# EAGLE library part TL2575HV (library wpt)
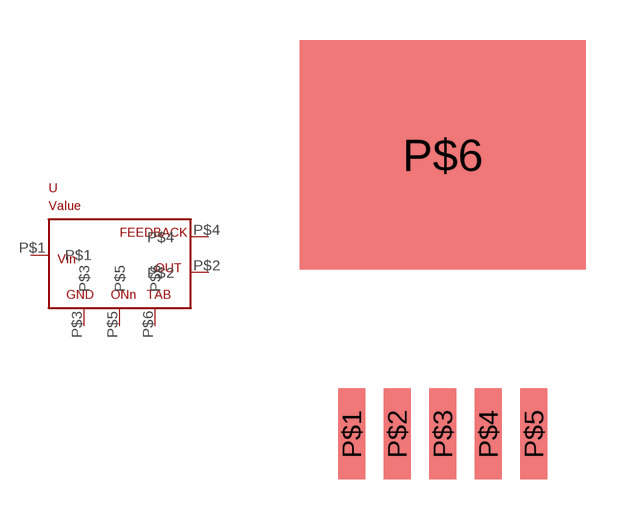
[diagram p2: symbol with the pads of TL2575HV; footprint TL2575HV]

Designator prefix U

## TL2575HV  [TL2575HV]
P$1  P$1
P$2  P$2
P$3  P$3
P$4  P$4
P$5  P$5
P$6  P$6

## Footprint TL2575HV (pad centres in mm)
smd 1.016 x 3.404: P$1 -3.404,-10.439; P$2 -1.702,-10.439; P$3 0,-10.439; P$4 1.702,-10.439; P$5 3.404,-10.439
smd 10.693 x 8.585: P$6 0,0